# Altium footprint library DRIVER MOTION PAN.PcbLib: 34 footprints (part 1 of 3)
Each footprint in its own frame and in the unit in brackets; x right, y up, seen from the top. Pads: shape width x height; smd on the part's side, far side on the other; paste and mask are expansions set on the pad; w line width, h text height; cw(c..) or ccw(c..) is an arc to the next point about the centre after c.
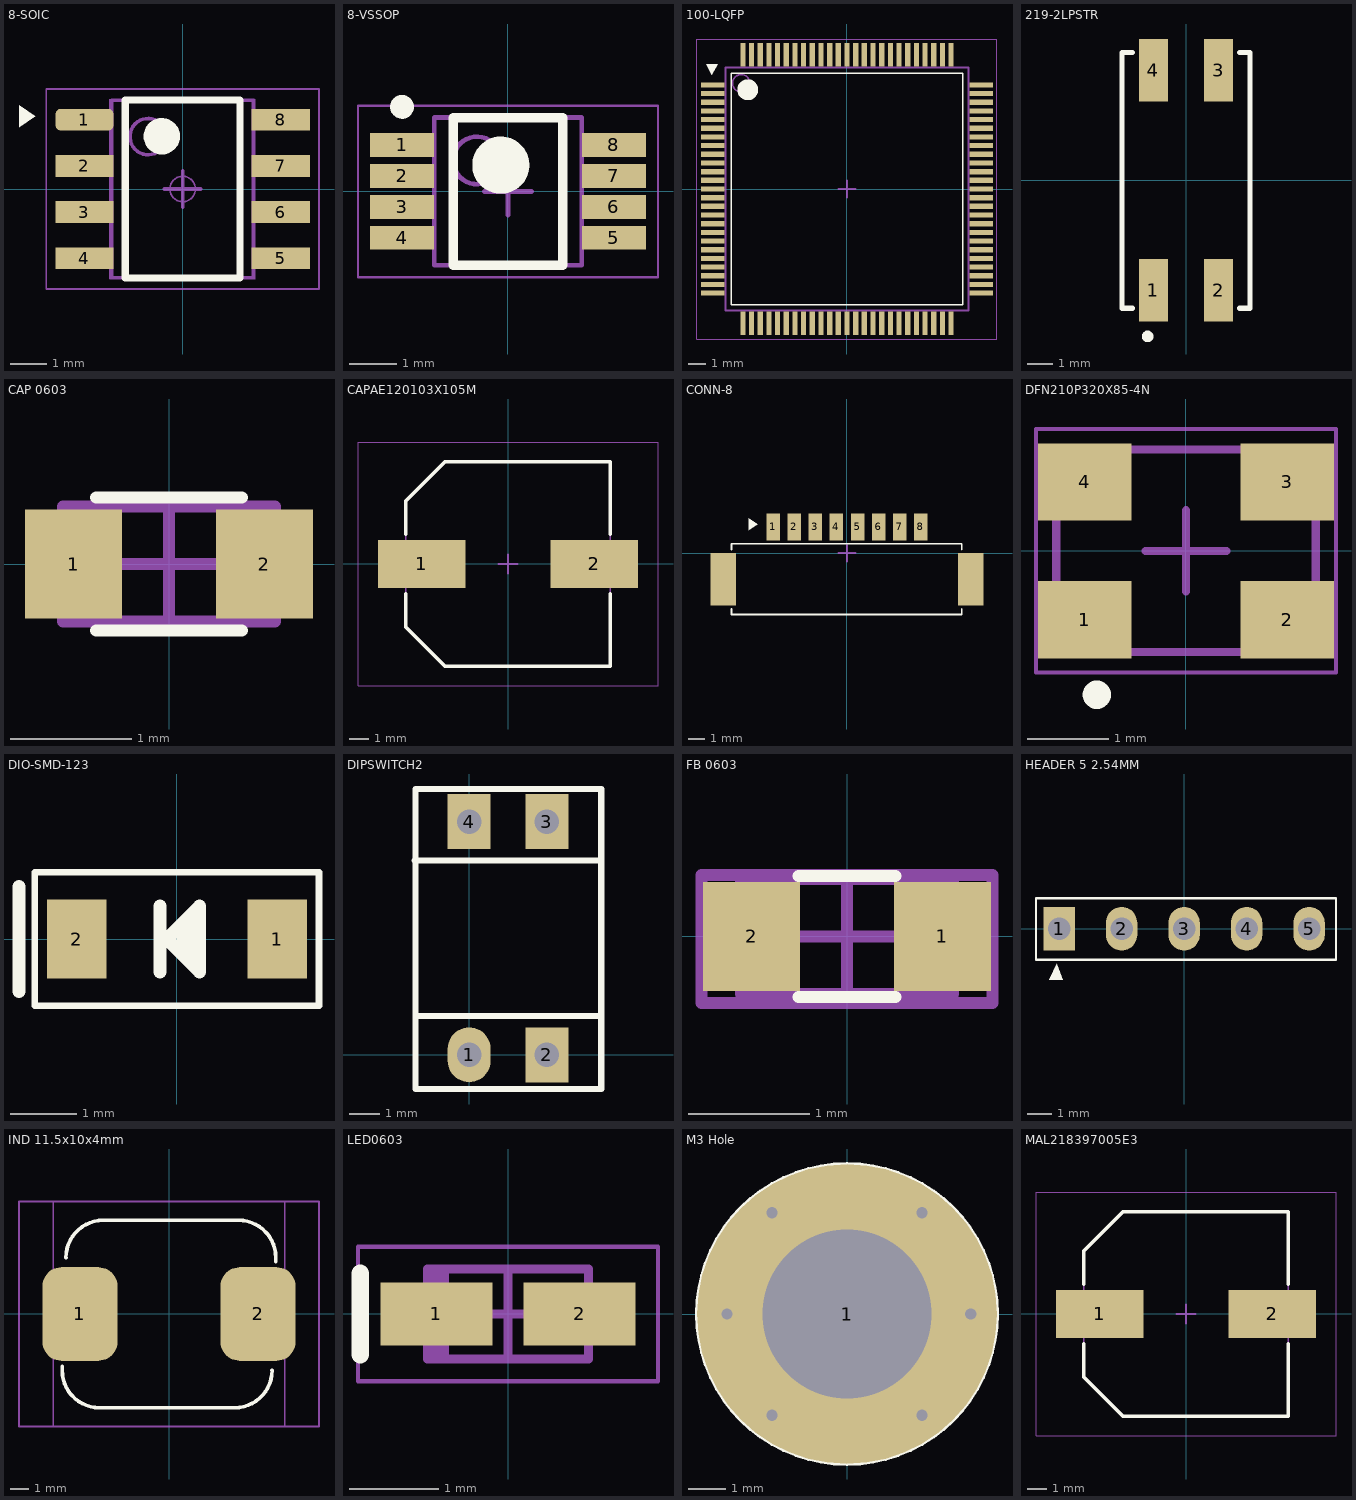
[diagram p0: the footprints below, top view; thin cyan lines are the x and y axes]

## 8-SOIC [mm]
height 2.54
pads (8):
  rrect50% 1.6x0.6 smd: 1(-2.7,1.905)
  rect 1.6x0.6 smd: 2(-2.7,0.635) 3(-2.7,-0.635) 4(-2.7,-1.905) 5(2.7,-1.905) 6(2.7,-0.635) 7(2.7,0.635) 8(2.7,1.905)
Top Overlay:
  circle w0.5: c-0.575,1.45 r0.25
  region: -4.5,2.3 -4.5,1.7 -4.05,2
  lines w0.2: -1.575,-2.45 1.575,-2.45 1.575,2.45 -1.575,2.45 -1.575,-2.45
Mechanical 1:
  circle w0.05: c0,0 r0.35
  lines w0.05: -0.5,0 0.5,0 ; 0,-0.5 0,0.5 ; -3.75,-2.75 3.75,-2.75 3.75,2.75 -3.75,2.75 -3.75,-2.75
Mechanical 2:
  lines w0.001: -2,-2.475 2,-2.475 2,2.475 -2,2.475 -2,-2.475
Mechanical 3:
  circle w0.1: c-0.95,1.44 r0.5
  lines w0.1: -1.95,-2.44 1.95,-2.44 1.95,2.44 -1.95,2.44 -1.95,-2.44
Mechanical 15:
  lines w0.1: -0.5,0 0.5,0 ; 0,-0.5 0,0.5
3D body "User Library-SOIC-8-1.step": height 1.75, standoff 0, extent -3,-2.45 3,2.45

## 8-VSSOP [mm] "TSOP, 8-Leads, Body 3.00x3.00mm, Pitch 0.65mm, IPC Medium Density"
height 1.1
pads (8):
  rect 1.35x0.5 smd: 1(-2.225,0.975) 2(-2.225,0.325) 3(-2.225,-0.325) 4(-2.225,-0.975) 5(2.225,-0.975) 6(2.225,-0.325) 7(2.225,0.325) 8(2.225,0.975)
Top Overlay:
  circle w0.25: c-2.225,1.775 r0.125
  circle w0.6: c-0.15,0.55 r0.3
  lines w0.2: -1.15,-1.55 -1.15,1.55 1.15,1.55 1.15,-1.55 -1.15,-1.55
Mechanical 13:
  circle w0.1: c-0.65,0.65 r0.5
  lines w0.1: -1.55,-1.55 -1.55,1.55 1.55,1.55 1.55,-1.55 -1.55,-1.55
Mechanical 15:
  lines w0.05: -3.15,-1.8 -3.15,1.8 3.15,1.8 3.15,-1.8 -3.15,-1.8
  lines w0.1: -0.5,0 0.5,0 ; 0,-0.5 0,0.5
3D body: height 1.1, standoff 0.05, extent -1.55,-1.55 1.55,1.55

## 100-LQFP [mm]
height 2.54
pads (100):
  rect 1.35x0.3 smd: 1(-7.75,6) 2(-7.75,5.5) 3(-7.75,5) 4(-7.75,4.5) 5(-7.75,4) 6(-7.75,3.5) 7(-7.75,3) 8(-7.75,2.5) 9(-7.75,2) 10(-7.75,1.5) 11(-7.75,1) 12(-7.75,0.5) 13(-7.75,0) 14(-7.75,-0.5) 15(-7.75,-1) 16(-7.75,-1.5) 17(-7.75,-2) 18(-7.75,-2.5) 19(-7.75,-3) 20(-7.75,-3.5) 21(-7.75,-4) 22(-7.75,-4.5) 23(-7.75,-5) 24(-7.75,-5.5) 25(-7.75,-6) 51(7.75,-6) 52(7.75,-5.5) 53(7.75,-5) 54(7.75,-4.5) 55(7.75,-4) 56(7.75,-3.5) 57(7.75,-3) 58(7.75,-2.5) 59(7.75,-2) 60(7.75,-1.5) 61(7.75,-1) 62(7.75,-0.5) 63(7.75,0) 64(7.75,0.5) 65(7.75,1) 66(7.75,1.5) 67(7.75,2) 68(7.75,2.5) 69(7.75,3) 70(7.75,3.5) 71(7.75,4) 72(7.75,4.5) 73(7.75,5) 74(7.75,5.5) 75(7.75,6)
  rect 0.3x1.35 smd: 26(-6,-7.75) 27(-5.5,-7.75) 28(-5,-7.75) 29(-4.5,-7.75) 30(-4,-7.75) 31(-3.5,-7.75) 32(-3,-7.75) 33(-2.5,-7.75) 34(-2,-7.75) 35(-1.5,-7.75) 36(-1,-7.75) 37(-0.5,-7.75) 38(0,-7.75) 39(0.5,-7.75) 40(1,-7.75) 41(1.5,-7.75) 42(2,-7.75) 43(2.5,-7.75) 44(3,-7.75) 45(3.5,-7.75) 46(4,-7.75) 47(4.5,-7.75) 48(5,-7.75) 49(5.5,-7.75) 50(6,-7.75) 76(6,7.75) 77(5.5,7.75) 78(5,7.75) 79(4.5,7.75) 80(4,7.75) 81(3.5,7.75) 82(3,7.75) 83(2.5,7.75) 84(2,7.75) 85(1.5,7.75) 86(1,7.75) 87(0.5,7.75) 88(0,7.75) 89(-0.5,7.75) 90(-1,7.75) 91(-1.5,7.75) 92(-2,7.75) 93(-2.5,7.75) 94(-3,7.75) 95(-3.5,7.75) 96(-4,7.75) 97(-4.5,7.75) 98(-5,7.75) 99(-5.5,7.75) 100(-6,7.75)
Top Overlay:
  circle w0.6: c-5.725,5.725 r0.3
  region: -7.463,7.2 -8.13,7.2 -7.797,6.6
  lines w0.1: -6.675,-6.675 -6.675,6.675 6.675,6.675 6.675,-6.675 -6.675,-6.675
Mechanical 13:
  circle w0.1: c-6.1,6.1 r0.5
  lines w0.1: -7,-7 -7,7 7,7 7,-7 -7,-7
Mechanical 15:
  lines w0.05: -8.65,-8.65 -8.65,8.65 8.65,8.65 8.65,-8.65 -8.65,-8.65
  lines w0.1: -0.5,0 0.5,0 ; 0,-0.5 0,0.5
3D body "User Library-LQFP100_Grid_0_5.STEP": height 1.6, standoff 0, extent -8,-8 8,8

## 219-2LPSTR [mm]
pads (4):
  rect 1.12x2.44 smd: 1(-1.27,-4.3) 2(1.27,-4.3) 3(1.27,4.3) 4(-1.27,4.3)
Top Overlay:
  circle w0.254: c-1.5,-6.1 r0.1
  lines w0.2: -2.1,-5 -2.5,-5 -2.5,5 -2.1,5 ; 2.1,-5 2.5,-5 2.5,5 2.1,5

## CAP 0603 [mm]
height 2.54
pads (2):
  rect 0.8x0.9 smd: 1(-0.787,0) 2(0.787,0)
Top Overlay:
  lines w0.1: -0.6,-0.55 0.6,-0.55 ; -0.6,0.55 0.6,0.55
Mechanical 13:
  lines w0.1: -0.875,-0.475 0.875,-0.475 0.875,0.475 -0.875,0.475 -0.875,-0.475
Mechanical 15:
  lines w0.1: -0.5,0 0.5,0 ; 0,-0.5 0,0.5
3D body "User Library-cap_0603_lowprofile.step": height 0.6, standoff 0, extent -0.8,-0.41 0.8,0.39

## CAPAE120103X105M [mm] "MAL218397005E3"
height 10.5
pads (2):
  rect 4.5x2.45 smd: 1(-4.425,0) 2(4.425,0)
Top Overlay:
  lines w0.2: -5.25,-1.525 -5.25,-3.238 -3.237,-5.25 5.25,-5.25 5.25,-1.525 ; -5.25,1.525 -5.25,3.237 -3.237,5.25 5.25,5.25 5.25,1.525
Mechanical 13:
  lines w0.1: -5.25,-3.238 -5.25,3.237 -3.237,5.25 5.25,5.25 5.25,-5.25 -3.237,-5.25 -5.25,-3.238
Mechanical 15:
  lines w0.05: -7.7,-6.25 7.7,-6.25 7.7,6.25 -7.7,6.25 -7.7,-6.25
  lines w0.1: -0.5,0 0.5,0 ; 0,-0.5 0,0.5
3D body: height 10.8, standoff 0, extent -5,-5 5,5
3D body: height 3.6, standoff 0, extent -5.25,-5.25 5.25,5.25

## CONN-8 [mm]
height 2.54
pads (10):
  rect 0.8x1.6 smd: 1(-4.375,1.55) 2(-3.125,1.55) 3(-1.875,1.55) 4(-0.625,1.55) 5(0.625,1.55) 6(1.875,1.55) 7(3.125,1.55) 8(4.375,1.55)
  rect 1.5x3.1 smd: ""(-7.35,-1.55) ""(7.35,-1.55)
Top Overlay:
  region: -5.821,2.061 -5.821,1.366 -5.299,1.714
  lines w0.1: -6.85,-3.3 -6.85,-3.65 6.8,-3.65 6.8,-3.3 ; -6.85,0.2 -6.85,0.55 6.795,0.55 ; 6.8,0.2 6.8,0.55
Mechanical 15:
  lines w0.1: -0.5,0 0.5,0 ; 0,-0.5 0,0.5
3D body "532610871.stp": height 3.41, standoff 0.01, extent -7.585,-3.625 7.565,1.575

## DFN210P320X85-4N [mm] "DFN, 4-Leads, Body 2.50x3.20mm, Pitch 2.10mm, IPC Medium Density"
height 0.85
pads (4):
  rect 1.15x0.95 smd: 1(-1.25,-0.85) 2(1.25,-0.85) 3(1.25,0.85) 4(-1.25,0.85)
Top Overlay:
  circle w0.25: c-1.1,-1.775 r0.05
Mechanical 13:
  lines w0.1: -1.6,-1.25 -1.6,1.25 1.6,1.25 1.6,-1.25 -1.6,-1.25
Mechanical 15:
  lines w0.05: -1.85,-1.5 -1.85,1.5 1.85,1.5 1.85,-1.5 -1.85,-1.5
  lines w0.1: -0.5,0 0.5,0 ; 0,-0.5 0,0.5
3D body "ASEM.STEP": height 0.86, standoff 0.01, extent -1.6,-1.25 1.6,1.25

## DIO-SMD-123 [mm]
height 2.54
pads (2):
  rect 0.9x1.2 smd: 1(1.524,0) 2(-1.524,0)
Top Overlay:
  lines w0.102: -2.159,-1.016 -2.159,1.016 2.159,1.016 2.159,-1.016 -2.159,-1.016
  lines w0.2: -2.4,-0.8 -2.4,0.8 ; -0.257,-0.5 -0.257,0.5 ; 0.093,-0.15 0.093,0.15 ; 0.243,-0.3 0.243,0.3 ; -0.157,0 0.343,-0.5 0.343,0.5 -0.157,0
3D body "User Library-SOD-123.step": height 1.25, standoff 0, extent -1.756,-0.8 1.942,0.8

## DIPSWITCH2 [mm]
height 2.54
pads (4):
  oval 1.4x1.8 hole 0.8: 1(0,0)
  rect 1.4x1.8 hole 0.8: 2(2.54,0) 3(2.54,7.62) 4(0,7.62)
Top Overlay:
  lines w0.203: -1.778,6.35 4.318,6.35 ; -1.753,1.27 4.318,1.27 ; -1.753,-1.118 -1.118,-1.118 4.318,-1.118 4.318,1.778 4.318,8.687 -1.753,8.687 -1.753,-1.118
3D body "switch_ad-dil-sw_02-n.stp": height 6.3, standoff -4, extent -1.77,-1.016 4.31,8.584

## FB 0603 [mm]
height 2.54
pads (2):
  rect 0.8x0.9 smd: 1(0.787,0) 2(-0.787,0)
Top Overlay:
  lines w0.1: -0.4,-0.5 0.4,-0.5 ; -0.4,0.5 0.4,0.5
Mechanical 13:
  lines w0.1: -0.875,-0.475 0.875,-0.475 0.875,0.475 -0.875,0.475 -0.875,-0.475
Mechanical 15:
  lines w0.1: -0.475,0 0.475,0 ; 0,-0.475 0,0.475 ; -1.2,-0.55 1.2,-0.55 1.2,0.508 -1.2,0.508 -1.2,-0.55
3D body "rlc16-r100fb.stp": height 0.45, standoff 0, extent -0.8,-0.4 0.8,0.4

## HEADER 5 2.54MM [mil]
height 100
pads (5):
  rect 50x70 hole 36 mask+0: 1(-200,0)
  oval 50x70 hole 36 mask+0: 2(-100,0) 3(0,0) 4(100,0) 5(200,0)
Top Overlay:
  region: -203.94,-56.1 -215.75,-81.69 -194.09,-81.69
  lines w3.94: -237.01,-49.21 242.91,-49.21 242.91,49.21 -237.01,49.21 -237.01,-49.21

## IND 11.5x10x4mm [mm]
height 2.54
pads (2):
  rrect50% 4x5 smd mask+0.05: 1(-4.75,0) 2(4.75,0)
Top Overlay:
  lines w0.2: -5.7,-2.8 -5.7,-3 ccw(c-3.7,-3) -3.7,-5 3.5,-5 ccw(c3.5,-3) 5.5,-3 ; -5.5,3 cw(c-3.5,3) -3.5,5 3.7,5 cw(c3.7,3) 5.7,3 5.7,2.8
Mechanical 13:
  lines w0.1: -6.171,-6 6.171,-6 6.171,6 -6.171,6 -6.171,-6
Mechanical 15:
  lines w0.1: -8,-6 8,-6 8,6 -8,6 -8,-6
3D body: height 4, standoff 0, extent -5.762,-5.012 5.762,5.012

## LED0603 [mm]
pads (2):
  rect 1.25x0.7 smd: 1(-0.8,0) 2(0.8,0)
Top Overlay:
  lines w0.2: -1.65,-0.45 -1.65,0.45
Mechanical 13:
  rectangle: -0.9,-0.5 -0.658,0.5
  lines w0.1: -0.9,-0.5 0.9,-0.5 0.9,0.5 -0.9,0.5 -0.9,-0.5
Mechanical 15:
  lines w0.05: -1.675,-0.75 1.675,-0.75 1.675,0.75 -1.675,0.75 -1.675,-0.75
  lines w0.1: -0.5,0 0.5,0 ; 0,-0.5 0,0.5
3D body "User Library-D0603.step": height 0.56, standoff 0, extent -0.85,-0.4 0.85,0.4

## M3 Hole [mm]
pads (1):
  round 8 hole 4.5 mask+0.102: 1(0,0)
via -2,-2.7 diameter 0.6 hole 0.3
via -3.2,0 diameter 0.6 hole 0.3
via 3.3,0 diameter 0.6 hole 0.3
via 2,2.7 diameter 0.6 hole 0.3
via -2,2.7 diameter 0.6 hole 0.3
via 2,-2.7 diameter 0.6 hole 0.3
Top Overlay:
  circle w0.1: c0,0 r4
  lines w0.1: -4,0 -3.7,0 ccw(c0,0) 0,-3.7 0,-4 ; -3.9,0 ccw(c0,0) 0,-3.9 ; -3.8,0 ccw(c0,0) 0,-3.8 ; 0,3.8 cw(c0,0) 3.8,0 ; 0,3.9 cw(c0,0) 3.9,0 ; 0,4 0,3.7 cw(c0,0) 3.7,0 4,0
Bottom Overlay:
  circle w0.1: c0,0 r4
  lines w0.1: -4,0 -3.7,0 ccw(c0,0) 0,-3.7 0,-4 ; -3.9,0 ccw(c0,0) 0,-3.9 ; -3.8,0 ccw(c0,0) 0,-3.8 ; 0,3.8 cw(c0,0) 3.8,0 ; 0,3.9 cw(c0,0) 3.9,0 ; 0,4 0,3.7 cw(c0,0) 3.7,0 4,0

## MAL218397005E3 [mm] "Aluminum Electrolytic Capacitor, Body 10.50x10.50x10.80mm, IPC Low Density"
height 10.8
pads (2):
  rect 4.5x2.45 smd: 1(-4.425,0) 2(4.425,0)
Top Overlay:
  lines w0.2: -5.25,-1.525 -5.25,-3.238 -3.237,-5.25 5.25,-5.25 5.25,-1.525 ; -5.25,1.525 -5.25,3.237 -3.237,5.25 5.25,5.25 5.25,1.525
Mechanical 13:
  lines w0.1: -5.25,-3.238 -5.25,3.237 -3.237,5.25 5.25,5.25 5.25,-5.25 -3.237,-5.25 -5.25,-3.238
Mechanical 15:
  lines w0.05: -7.7,-6.25 7.7,-6.25 7.7,6.25 -7.7,6.25 -7.7,-6.25
  lines w0.1: -0.5,0 0.5,0 ; 0,-0.5 0,0.5
3D body: height 10.8, standoff 0, extent -5,-5 5,5
3D body: height 3.6, standoff 0, extent -5.25,-5.25 5.25,5.25